# EAGLE library part 6-PIN-HEADER (library BiomedicalImagingLibrary)
6 x 0.1 inch Header 40x1 0.1inch Male Breakaway header can be used. - 4UCON 00834 <http://www.4uconnector.com/online/SearchPro.asp?FormName=ProSearch&FormAction=search&s_GroupNo=&s_keyword=00834> For female part, if possible use 6 x 1 without breaking.
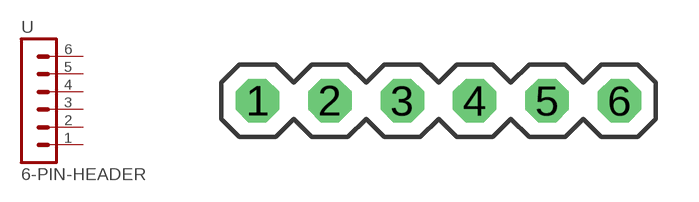
[diagram p9: symbol with the pads of 06X1-PTH; footprint 06X1-PTH]

Designator prefix -

## 6-PIN-HEADER-MALE (OTHER: 4UCON 00834; URL: http://www.4uconnector.com/online/SearchPro.asp?FormName=ProSearch&FormAction=search&s_GroupNo=&s_keyword=00834)  [06X1-PTH]
1  1  pas
2  2  pas
3  3  pas
4  4  pas
5  5  pas
6  6  pas

## 6-PIN-HEADER-FEMALE  [06X1-PTH]
Pads as for 06X1-PTH

## Footprint 06X1-PTH (pad centres in mm)
6x 0.1in Pin Header Octagon Shape
drill 1.016 octagon: 1 -6.35,0; 2 -3.81,0; 3 -1.27,0; 4 1.27,0; 5 3.81,0; 6 6.35,0